# EAGLE library part RF1000* (library NewSDR)
RF Power Systems 1" Binocular RF Transformer
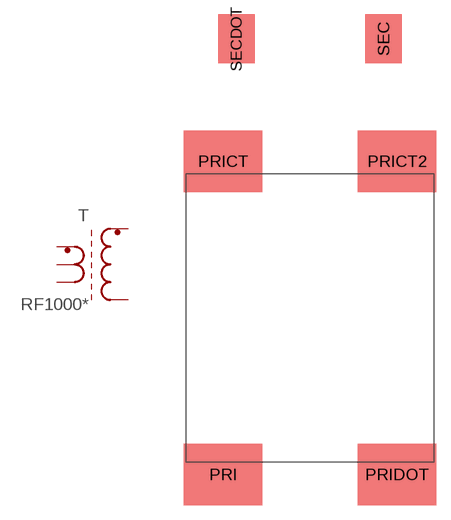
[diagram p210: symbol with the pads of RF1000; footprint RF1000]

Designator prefix T

## RF1000-61-4-SMDS, RF1000-67-5T-SMDS  [RF1000]
PRI  PRI  pas
PRICT  PRICT  pas
PRICT2  PRICT1  pas
PRIDOT  PRIDOT  pas
SEC  SEC  pas
SECDOT  SECDOT  pas

## Footprint RF1000 (pad centres in mm)
RF Power Systems 1" Binocular PA Transformer With SMD Secondary Mount and Split Center Tap Pads
smd 8.128 x 6.35: PRI -9.017,-16.51; PRICT -9.017,16.002; PRICT2 9.017,16.002; PRIDOT 9.017,-16.51
smd 3.81 x 5.08: SEC 7.62,28.702; SECDOT -7.62,28.702